# Altium schematic symbol library SCH - MCU - ATSAM - MICROCHIP SAMHA1G16A-MB QFN48.SchLib: 1 symbol
Pins are listed as number, name and electrical type; pins without a type are passive.

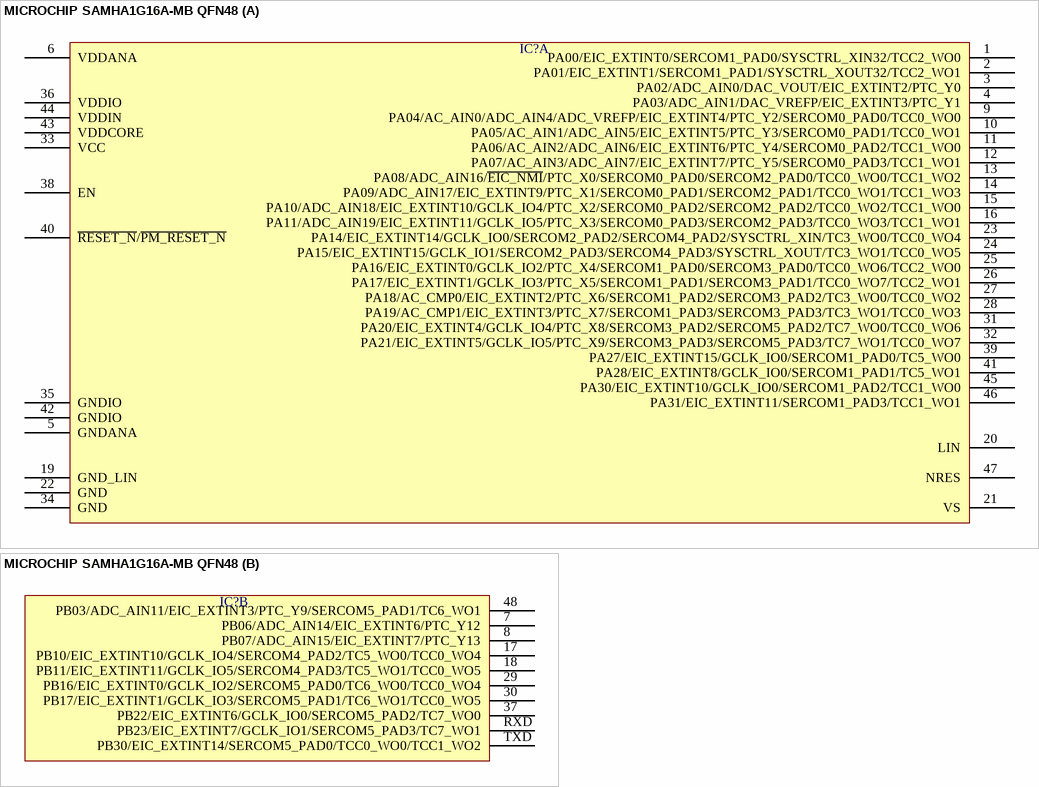
[diagram p0: symbol MICROCHIP SAMHA1G16A-MB QFN48]

## MICROCHIP SAMHA1G16A-MB QFN48
designator IC?  (value not drawn)
part A pins: 1 PA00/EIC_EXTINT0/SERCOM1_PAD0/SYSCTRL_XIN32/TCC2_WO0, 2 PA01/EIC_EXTINT1/SERCOM1_PAD1/SYSCTRL_XOUT32/TCC2_WO1, 3 PA02/ADC_AIN0/DAC_VOUT/EIC_EXTINT2/PTC_Y0, 4 PA03/ADC_AIN1/DAC_VREFP/EIC_EXTINT3/PTC_Y1, 5 GNDANA, 6 VDDANA, 9 PA04/AC_AIN0/ADC_AIN4/ADC_VREFP/EIC_EXTINT4/PTC_Y2/SERCOM0_PAD0/TCC0_WO0, 10 PA05/AC_AIN1/ADC_AIN5/EIC_EXTINT5/PTC_Y3/SERCOM0_PAD1/TCC0_WO1, 11 PA06/AC_AIN2/ADC_AIN6/EIC_EXTINT6/PTC_Y4/SERCOM0_PAD2/TCC1_WO0, 12 PA07/AC_AIN3/ADC_AIN7/EIC_EXTINT7/PTC_Y5/SERCOM0_PAD3/TCC1_WO1, 13 PA08/ADC_AIN16/~{EIC_NMI}/PTC_X0/SERCOM0_PAD0/SERCOM2_PAD0/TCC0_WO0/TCC1_WO2, 14 PA09/ADC_AIN17/EIC_EXTINT9/PTC_X1/SERCOM0_PAD1/SERCOM2_PAD1/TCC0_WO1/TCC1_WO3, 15 PA10/ADC_AIN18/EIC_EXTINT10/GCLK_IO4/PTC_X2/SERCOM0_PAD2/SERCOM2_PAD2/TCC0_WO2/TCC1_WO0, 16 PA11/ADC_AIN19/EIC_EXTINT11/GCLK_IO5/PTC_X3/SERCOM0_PAD3/SERCOM2_PAD3/TCC0_WO3/TCC1_WO1, 19 GND_LIN, 20 LIN, 21 VS, 22 GND, 23 PA14/EIC_EXTINT14/GCLK_IO0/SERCOM2_PAD2/SERCOM4_PAD2/SYSCTRL_XIN/TC3_WO0/TCC0_WO4, 24 PA15/EIC_EXTINT15/GCLK_IO1/SERCOM2_PAD3/SERCOM4_PAD3/SYSCTRL_XOUT/TC3_WO1/TCC0_WO5, 25 PA16/EIC_EXTINT0/GCLK_IO2/PTC_X4/SERCOM1_PAD0/SERCOM3_PAD0/TCC0_WO6/TCC2_WO0, 26 PA17/EIC_EXTINT1/GCLK_IO3/PTC_X5/SERCOM1_PAD1/SERCOM3_PAD1/TCC0_WO7/TCC2_WO1, 27 PA18/AC_CMP0/EIC_EXTINT2/PTC_X6/SERCOM1_PAD2/SERCOM3_PAD2/TC3_WO0/TCC0_WO2, 28 PA19/AC_CMP1/EIC_EXTINT3/PTC_X7/SERCOM1_PAD3/SERCOM3_PAD3/TC3_WO1/TCC0_WO3, 31 PA20/EIC_EXTINT4/GCLK_IO4/PTC_X8/SERCOM3_PAD2/SERCOM5_PAD2/TC7_WO0/TCC0_WO6, 32 PA21/EIC_EXTINT5/GCLK_IO5/PTC_X9/SERCOM3_PAD3/SERCOM5_PAD3/TC7_WO1/TCC0_WO7, 33 VCC, 34 GND, 35 GNDIO, 36 VDDIO, 38 EN, 39 PA27/EIC_EXTINT15/GCLK_IO0/SERCOM1_PAD0/TC5_WO0, 40 ~{RESET_N}/~{PM_RESET_N}, 41 PA28/EIC_EXTINT8/GCLK_IO0/SERCOM1_PAD1/TC5_WO1, 42 GNDIO, 43 VDDCORE, 44 VDDIN, 45 PA30/EIC_EXTINT10/GCLK_IO0/SERCOM1_PAD2/TCC1_WO0, 46 PA31/EIC_EXTINT11/SERCOM1_PAD3/TCC1_WO1, 47 NRES
part B pins: 7 PB06/ADC_AIN14/EIC_EXTINT6/PTC_Y12, 8 PB07/ADC_AIN15/EIC_EXTINT7/PTC_Y13, 17 PB10/EIC_EXTINT10/GCLK_IO4/SERCOM4_PAD2/TC5_WO0/TCC0_WO4, 18 PB11/EIC_EXTINT11/GCLK_IO5/SERCOM4_PAD3/TC5_WO1/TCC0_WO5, 29 PB16/EIC_EXTINT0/GCLK_IO2/SERCOM5_PAD0/TC6_WO0/TCC0_WO4, 30 PB17/EIC_EXTINT1/GCLK_IO3/SERCOM5_PAD1/TC6_WO1/TCC0_WO5, 37 PB22/EIC_EXTINT6/GCLK_IO0/SERCOM5_PAD2/TC7_WO0, 48 PB03/ADC_AIN11/EIC_EXTINT3/PTC_Y9/SERCOM5_PAD1/TC6_WO1, RXD PB23/EIC_EXTINT7/GCLK_IO1/SERCOM5_PAD3/TC7_WO1, TXD PB30/EIC_EXTINT14/SERCOM5_PAD0/TCC0_WO0/TCC1_WO2